# Altium schematic symbol library TPS71710DCKT.SchLib: 1 symbol
Pins are listed as number, name and electrical type; pins without a type are passive.

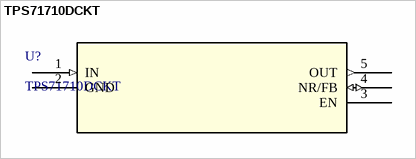
[diagram p0: symbol TPS71710DCKT]

## TPS71710DCKT
designator U?
150-mA, high-PSRR, low-IQ, low-dropout voltage regulator with enable 5-SC70 -40 to 125; Manufacturer_Name: Texas Instruments; Copyright: Copyright (C) 2026 Ultra Librarian. All rights reserved.; Manufacturer_Part_Number: TPS71710DCKT; Datasheet: https://www.ti.com/lit/gpn/tps717; RefDes: RefDes; Type: Type
footprint DCK5
pins: 1 IN (in), 2 GND (power), 3 EN, 4 NR/FB (io), 5 OUT (out)